# Altium footprint library TYPEC304ACP16.PcbLib: 1 footprints
Each footprint in its own frame and in the unit in brackets; x right, y up, seen from the top. Pads: shape width x height; smd on the part's side, far side on the other; paste and mask are expansions set on the pad; w line width, h text height; cw(c..) or ccw(c..) is an arc to the next point about the centre after c.
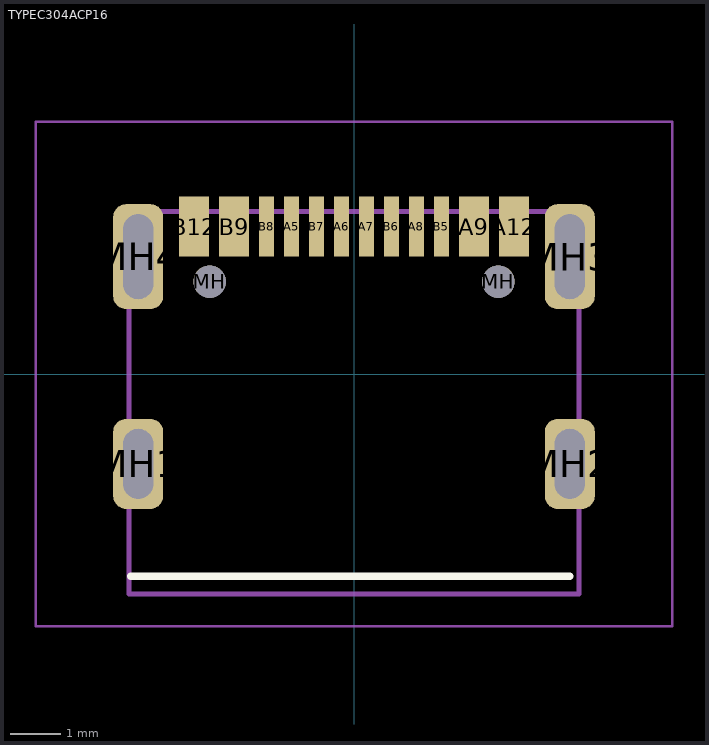
[diagram p0: the footprint, top view; thin cyan lines are the x and y axes]

## TYPEC304ACP16 [mm]
pads (18):
  rect 0.3x1.2 smd: A5(-1.25,2.95) A6(-0.25,2.95) A7(0.25,2.95) A8(1.25,2.95) B5(1.75,2.95) B6(0.75,2.95) B7(-0.75,2.95) B8(-1.75,2.95)
  rect 0.6x1.2 smd: A9(2.4,2.95) A12(3.2,2.95) B9(-2.4,2.95) B12(-3.2,2.95)
  round 0.65 hole 0.65 unplated mask+0.102: MH(-2.89,1.85) MH(2.89,1.85)
  rrect50% 1x1.8 hole 0.6 slot 1.4 at 90 deg: MH1(-4.32,-1.8) MH2(4.32,-1.8)
  rrect50% 1x2.1 hole 0.6 slot 1.7 at 90 deg: MH3(4.32,2.35) MH4(-4.32,2.35)
Top Overlay:
  lines w0.15: -4.47,-4.05 4.32,-4.05
Assembly:
  lines w0.1: -4.5,-4.4 -4.5,3.25 4.5,3.25 4.5,-4.4 -4.5,-4.4
Courtyard:
  lines w0.05: -6.37,-5.05 6.37,-5.05 6.37,5.05 -6.37,5.05 -6.37,-5.05
3D body "TYPEC-304-ACP16.stp": height 3.28, standoff -1.09, extent -4.493,-4.4 4.493,3.25